# Altium footprint library ANT5320.PcbLib: 1 footprints
Each footprint in its own frame and in the unit in brackets; x right, y up, seen from the top. Pads: shape width x height; smd on the part's side, far side on the other; paste and mask are expansions set on the pad; w line width, h text height; cw(c..) or ccw(c..) is an arc to the next point about the centre after c.
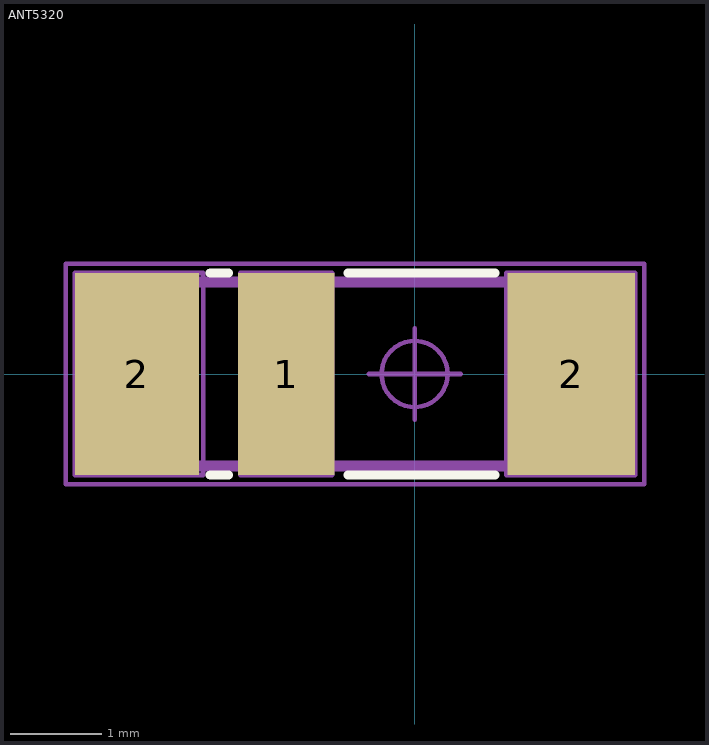
[diagram p0: the footprint, top view; thin cyan lines are the x and y axes]

## ANT5320 [mm] "Header, Vertical, 2.54 mm pitch; 0.66 mm lead width, 6 pins, 1 row, 6 pins per row, 15.24 mm L X 2.49 mm W X 8.38 mm H body"
height 8.38
pads (3):
  rect 1.05x2.2 smd mask+0: 1(-1.4,0)
  rect 1.35x2.2 smd mask+0: 2(-3.025,0)
  rect 1.39x2.2 smd mask+0: 2(1.705,0)
Top Overlay:
  lines w0.1: -2.225,-1.1 -2.025,-1.1 ; -2.225,1.1 -2.025,1.1 ; -0.725,-1.1 0.875,-1.1 ; -0.725,1.1 0.875,1.1
Top Solder:
  rectangle: 1.015,-1.1 2.105,1.1
  rectangle: -3.395,-1.1 -2.355,1.1
Mechanical 3:
  lines w0.12: -3.3,-1 2,-1 2,1 -3.3,1 -3.3,-1
Mechanical 5:
  lines w0.05: -3.7,-1.1 -3.7,1.1 -2.3,1.1 -2.3,-1.1 -3.7,-1.1 ; -1.9,-1.1 -1.9,1.1 -0.9,1.1 -0.9,-1.1 -1.9,-1.1 ; 1,-1.1 1,1.1 2.4,1.1 2.4,-1.1 1,-1.1
Mechanical 7:
  circle w0.05: c0,0 r0.361
  lines w0.05: -0.5,0 0.5,0 ; 0,-0.5 0,0.5 ; -3.8,-1.2 2.5,-1.2 2.5,1.2 -3.8,1.2 -3.8,-1.2
Mechanical 9:
  text "'.Designator'" at -6.18,-2.854 h1
3D body: height 0.1, standoff 0, extent -3.8,-1.2 2.5,1.2
3D body: height 1, standoff 0, extent -3.3,-1 2,1
3D body: height 1.04, standoff 0, extent -3.8,-1.2 2.5,1.2